# EAGLE library part ATTINY12 (library ads4)
Atmel AVR ATtiny12
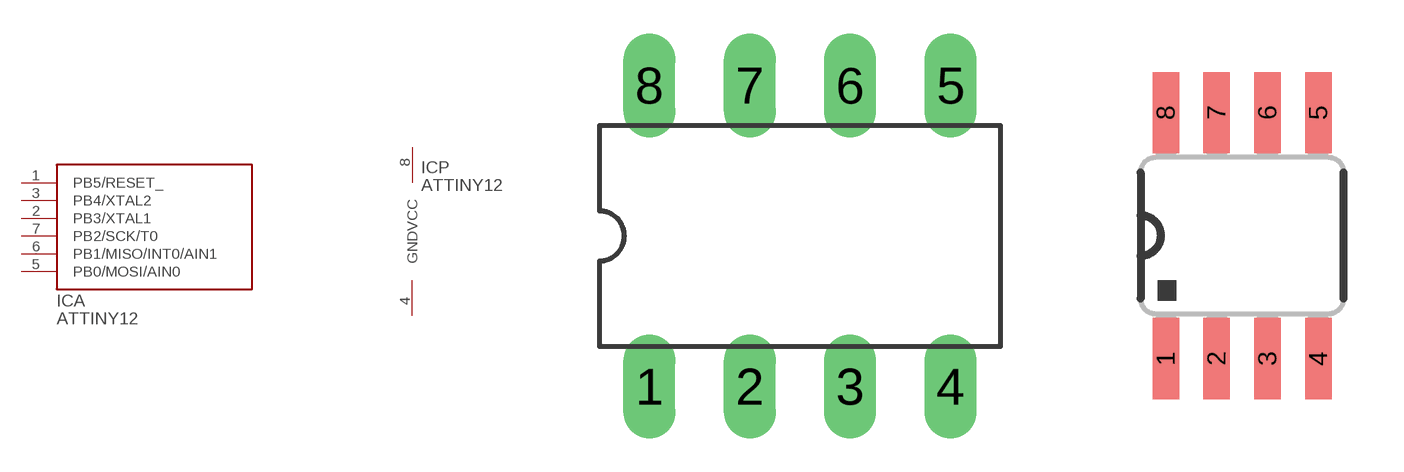
[diagram p46: symbol with the pads of DIL08; footprints DIL08, SO08]

Designator prefix IC; gates A=ATTINY12 P=POWER2

## ATTINY12PC  [DIL08]
1  A:PB5/RESET_  in
2  A:PB3/XTAL1  in
3  A:PB4/XTAL2  in
4  P:GND  pwr
5  A:PB0/MOSI/AIN0  in
6  A:PB1/MISO/INT0/AIN1  in
7  A:PB2/SCK/T0  in
8  P:VCC  pwr

## ATTINY12SC  [SO08]
Pads as for DIL08

## Footprint DIL08 (pad centres in mm)
8-pin Dual-In Line (copied from 74xx-us.lbr)
drill 0.813 long: 1 -3.81,-3.81; 2 -1.27,-3.81; 3 1.27,-3.81; 4 3.81,-3.81; 5 3.81,3.81; 6 1.27,3.81; 7 -1.27,3.81; 8 -3.81,3.81

## Footprint SO08 (pad centres in mm)
SO08 Package from 74xx-us.lbr 0.15" body
smd 0.66 x 2.032: 1 -1.905,-3.073; 2 -0.635,-3.073; 3 0.635,-3.073; 4 1.905,-3.073; 5 1.905,3.073; 6 0.635,3.073; 7 -0.635,3.073; 8 -1.905,3.073